# Altium integrated library LR0204F13K3.IntLib: 1 symbol
Pins are listed as number, name and electrical type; pins without a type are passive.

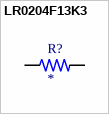
[diagram p0: symbol LR0204F13K3]

## LR0204F13K3
designator R?
13.3 kOhms Â±1% 0.25W, 1/4W Through Hole Resistor Axial - Metal Film; MF: TE Connectivity Passive Product; MP: LR0204F13K3; SnapEDA_Link: https://www.snapeda.com/parts/LR0204F13K3/TE/view-part/?ref=snap; Package: Axial TE Connectivity Passive Product; Value: *; Check_prices: https://www.snapeda.com/parts/LR0204F13K3/TE/view-part/?ref=eda
footprint RESAD640W45L370D200
pins: 1, 2